# EAGLE library part TXB0104D (library TXB0104D)
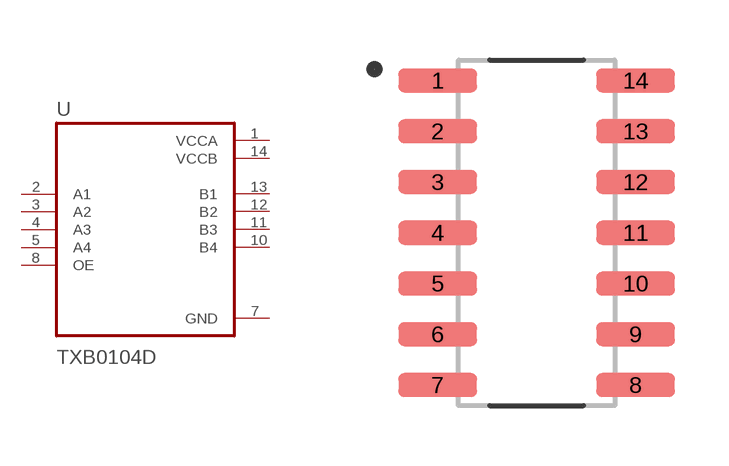
[diagram p0: symbol with the pads of SOIC127P600X175-14N; footprint SOIC127P600X175-14N]

Designator prefix U

## TXB0104D (Check_prices: https://www.snapeda.com/parts/TXB0104D/Texas+Instruments/view-part/?ref=eda; Description: 4-Bit Bidirectional Voltage-Level Shifter with Auto Direction Sensing and +/-15 kV ESD Protect; MF: Texas Instruments; MP: TXB0104D; Package: SOIC-14 Texas Instruments; Purchase-URL: https://www.snapeda.com/api/url_track_click_mouser/?unipart_id=44550&manufacturer=Texas Instruments&part_name=TXB0104D&search_term=txb0104; RS_Components_7092778P_Purchase_URL: https://www.snapeda.com/api/url_track_click/https%253A//uk.rs-online.com/web/p/translator-ics/7092778p//%253Futm_campaign%253Dbuynow%2526utm_medium%253Daggregator%2526utm_source%253Dsnapeda%2526cm_mmc%253Daff-_-uk-_-snapeda-_-7092778P/?unipart_id=44550&manufacturer=Texas Instruments&part_name=TXB0104D&search_term=txb0104; RS_Components_7092778_Purchase_URL: https://www.snapeda.com/api/url_track_click/https%253A//uk.rs-online.com/web/p/translator-ics/7092778//%253Futm_campaign%253Dbuynow%2526utm_medium%253Daggregator%2526utm_source%253Dsnapeda%2526cm_mmc%253Daff-_-uk-_-snapeda-_-7092778/?unipart_id=44550&manufacturer=Texas Instruments&part_name=TXB0104D&search_term=txb0104; RS_Components_9236790_Purchase_URL: https://www.snapeda.com/api/url_track_click/https%253A//uk.rs-online.com/web/p/translator-ics/9236790//%253Futm_campaign%253Dbuynow%2526utm_medium%253Daggregator%2526utm_source%253Dsnapeda%2526cm_mmc%253Daff-_-uk-_-snapeda-_-9236790/?unipart_id=44550&manufacturer=Texas Instruments&part_name=TXB0104D&search_term=txb0104; SnapEDA_Link: https://www.snapeda.com/parts/TXB0104D/Texas+Instruments/view-part/?ref=snap)  [SOIC127P600X175-14N]
1  VCCA  pwr
2  A1  in
3  A2  in
4  A3  in
5  A4  in
7  GND  pwr
8  OE  in
10  B4  out
11  B3  out
12  B2  out
13  B1  out
14  VCCB  pwr

## Footprint SOIC127P600X175-14N (pad centres in mm)
smd 1.97 x 0.6: 1 -2.475,3.81; 2 -2.475,2.54; 3 -2.475,1.27; 4 -2.475,0; 5 -2.475,-1.27; 6 -2.475,-2.54; 7 -2.475,-3.81; 8 2.475,-3.81; 9 2.475,-2.54; 10 2.475,-1.27; 11 2.475,0; 12 2.475,1.27; 13 2.475,2.54; 14 2.475,3.81